# Altium schematic symbol library Guitar_Multi_Effect_lib.SchLib: 37 symbols
Pins are listed as number, name and electrical type; pins without a type are passive.

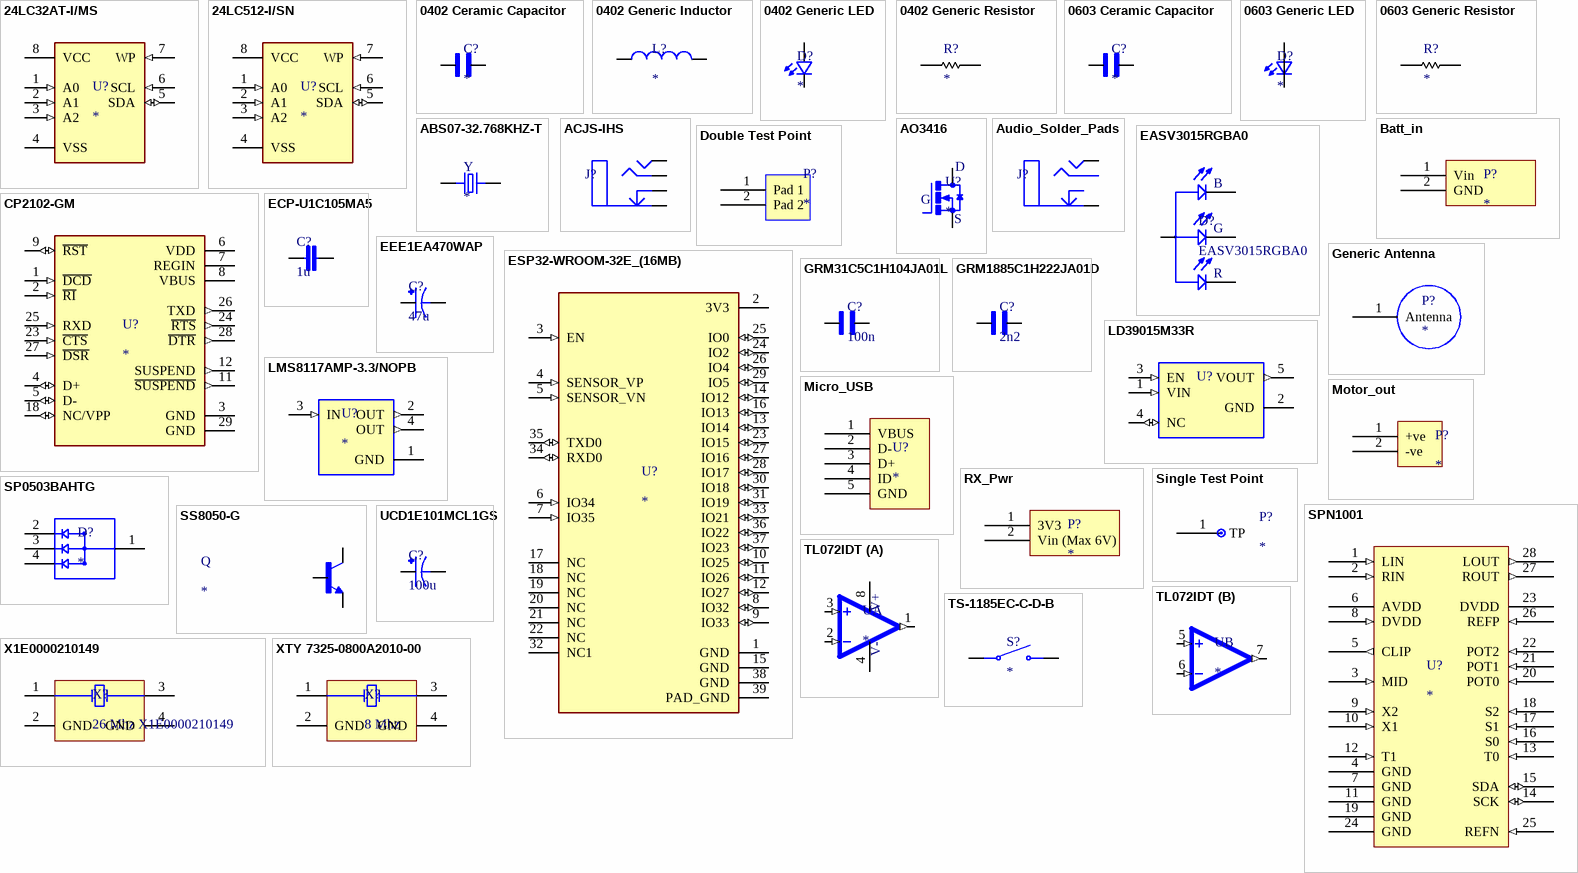
[diagram p0: symbols 24LC32AT-I/MS to XTY 7325-0800A2010-00]

## 24LC32AT-I/MS
designator U?
32K I2C Serial EEPROM
footprint 24LC32AT-I/MS
pins: 1 A0 (in), 2 A1 (in), 3 A2 (in), 4 VSS, 5 SDA (io), 6 SCL (in), 7 WP (in), 8 VCC (power)

## 24LC512-I/SN
designator U?
512K I2C Serial EEPROM
footprint 24LC512-I/SN
pins: 1 A0 (in), 2 A1 (in), 3 A2 (in), 4 VSS, 5 SDA (io), 6 SCL (in), 7 WP (in), 8 VCC (power)

## 0402 Ceramic Capacitor
designator C?
Generic 0402 Ceramic Capacitor; MP: AC0402FR-071ML; MF: Yageo; Package: 1005 Yageo; SnapEDA_Link: https://www.snapeda.com/parts/AC0402FR-071ML/Yageo/view-part/940461/?ref=snap; Value: *; Mouser-Purchase-URL: https://snapeda.com/shop?store=Mouser&id=940461; DigiKey-Purchase-URL: https://snapeda.com/shop?store=DigiKey&id=940461
footprint 0402 Capacitor Generic
pins: 1, 2

## 0402 Generic Inductor
designator L?
0402 Generic Inductor; Value: *
footprint 0402 Inductor Generic
pins: 1, 2

## 0402 Generic LED
designator D?
0402 Generic LED; Value: *
footprint 0402 LED Generic
pins: 1 K2, 2 A2

## 0402 Generic Resistor
designator R?
Generic 0402 Resistor
footprint 0402 Resistor Generic
pins: 1, 2

## 0603 Ceramic Capacitor
designator C?
Generic 0603 Ceramic Capacitor; MP: AC0402FR-071ML; MF: Yageo; Package: 1005 Yageo; SnapEDA_Link: https://www.snapeda.com/parts/AC0402FR-071ML/Yageo/view-part/940461/?ref=snap; Value: *; Mouser-Purchase-URL: https://snapeda.com/shop?store=Mouser&id=940461; DigiKey-Purchase-URL: https://snapeda.com/shop?store=DigiKey&id=940461
footprint CHIP_0603 (Chip Capacitor, 2-Leads, Body 1.60x0.80mm, IPC Medium Density)
pins: 1, 2

## 0603 Generic LED
designator D?
0603 Generic LED; Value: *
footprint 0603 LED Generic
pins: 1 K2, 2 A2

## 0603 Generic Resistor
designator R?
Generic 0603 Resistor
footprint CHIP_R_0603 (Chip Resistor, 2-Leads, Body 1.60x0.80mm, IPC Medium Density)
pins: 1, 2

## ABS07-32.768KHZ-T
designator Y
32.768kHz Â±20ppm Crystal 12.5pF 70 kOhms 2-SMD, No Lead; MF: Abracon LLC; MP: ABS07-32.768KHZ; Price: None; Value: *; Package: SMD-2 Abracon; Availability: Unavailable; SnapEDA_Link: https://www.snapeda.com/parts/ABS07-32.768KHZ/Abracon%20LLC/view-part/448682/?ref=snap
footprint XTAL_ABS07-32.768KHZ-T
pins: 1, 2

## ACJS-IHS
designator J?
6.35mm stereo insulated socket jack PCB mounted; Price: 0.5
footprint ACJS-IHS
pins: R, S, SN, T

## AO3416
designator U?
N-Channel 20V 6.5A _Ta_ 1.4W _Ta_ Surface Mount SOT-23-3L; MF: Alpha &; MP: AO3416; Digi-Key_Part_Number: 785-1011-1-ND; Package: SOT-23 Alpha &amp; Omega Semiconductor; Value: *; SnapEDA_Link: https://www.snapeda.com/parts/AO3416/Alpha%20%26%20Omega%20Semiconductor%20Inc./view-part/555673/?ref=snap; Digi-Key_Purchase_URL: https://www.digikey.com/product-detail/en/alpha-omega-semiconductor-inc/AO3416/785-1011-1-ND/1855953?utm_source=snapeda&utm_medium=aggregator&utm_campaign=symbol
footprint SOT23-3
pins: 1 G, 2 S, 3 D

## Audio_Solder_Pads
designator J?
Sodler pads for audio jacks; Price: 0.5
footprint 2 Test Points
pins: 1, 2

## Batt_in
designator P?
footprint 2 Solder Pads
pins: 1 Vin, 2 GND

## CP2102-GM
designator U?
USB Bridge, USB to UART USB 2.0 UART Interface 28-QFN _5x5_; MF: Silicon Labs; MP: CP2102-GM; Package: QFN-28 Silicon Labs; Value: *; Price: None; Availability: Unavailable; SnapEDA_Link: https://www.snapeda.com/parts/CP2102-GM/Silicon%20Labs/view-part/135876/?ref=snap
footprint QFN50P500X500X100-29N
pins: 1 ~{DCD} (in), 2 ~{RI} (in), 3 GND (power), 4 D+ (io), 5 D- (io), 6 VDD (power), 7 REGIN (power), 8 VBUS (power), 9 ~{RST} (io), 11 ~{SUSPEND} (out), 12 SUSPEND (out), 18 NC/VPP (io), 23 ~{CTS} (in), 24 ~{RTS} (out), 25 RXD (in), 26 TXD (out), 27 ~{DSR} (in), 28 ~{DTR} (out), 29 GND (power)

## Double Test Point
designator P?
footprint 2 Test Points
pins: 1 Pad 1, 2 Pad 2

## EASV3015RGBA0
designator D?
Red, Green, Blue _RGB_ 624nm Red, 525nm Green, 470nm Blue LED Indication - Discrete 2V Red, 3.3V Green, 3.3V Blue 4-SMD, No Lead; MF: Everlight Electronics; SnapEDA_Link: https://www.snapeda.com/parts/EASV3015RGBA0/Everlight%20Electronics%20Co%20Ltd/view-part/1921996/?ref=snap; Value: *; Price: None; Availability: Unavailable; MP: EASV3015RGBA0; Package: SMD-4 Everlight Electronics
footprint LED_EASV3015RGBA0
pins: 1, 2, 3, 4
text: B; G; R

## ECP-U1C105MA5
designator C?, comment 1u
CAP FILM 1UF 16V 20%; Manufacturer: Panasonic; Manufacturer Part Number: ECP-U1C105MA5; Dielectric: PPS; Dissipation Factor: 1.5%; Insulation Resistance: 300MR; Supplier 1: Farnell; Supplier Part Number 1: 9694315; RoHS: Yes; Category: Film Capacitors; Stock: 7744; Pricing: 5=0.65900, 50=0.39900, 250=0.33300, 500=0.27300, 1000=0.26400 (EUR); Mount: Surface Mount; Case/Package: 1210; Number of Pins: 2; Case Code (Metric): 3225; Contact Plating: Copper,Tin,Silver; Case Code (Imperial): 1210; Min Operating Temperature: -40°C; Max Operating Temperature: 85°C; Capacitance: 1uF; Tolerance: 20%; Termination: SMD/SMT; Voltage: 16V; Packaging: Tape and Reel; Package Quantity: 1; Voltage Rating: 16V; Voltage Rating (DC): 16V; Length: 3.2mm; Height: 1.4mm; Depth: 2.5mm; Height - Seated (Max): 0.063inch; Width: 2.5mm; Radiation Hardening: No; Lead Free: Lead Free; REACH SVHC: No SVHC; ComponentLink1URL: https://datasheet.ciiva.com/24023/abd0000ce12-181823-24023616.pdf?src-supplier=Mouser; ComponentLink1Description: https://datasheet.ciiva.com/24023/abd0000ce12-181823-24023616.pdf?src-supplier=Mouser; ComponentLink2URL: https://datasheet.ciiva.com/34303/1983192-34303533.pdf?src-supplier=Jameco; ComponentLink2Description: https://datasheet.ciiva.com/34303/1983192-34303533.pdf?src-supplier=Jameco; ComponentLink3URL: https://datasheet.ciiva.com/11790/0900766b80f2ea72-11790686.pdf?src-supplier=RSComponents; ComponentLink3Description: https://datasheet.ciiva.com/11790/0900766b80f2ea72-11790686.pdf?src-supplier=RSComponents; ComponentLink4URL: https://datasheet.ciiva.com/2992/abd0000ce12-2992994.pdf?src-supplier=Avnet; ComponentLink4Description: https://datasheet.ciiva.com/2992/abd0000ce12-2992994.pdf?src-supplier=Avnet; ComponentLink5URL: https://datasheet.ciiva.com/2992/abd0000ce12-2992995.pdf?src-supplier=Avnet; ComponentLink5Description: https://datasheet.ciiva.com/2992/abd0000ce12-2992995.pdf?src-supplier=Avnet; ComponentLink6URL: https://datasheet.ciiva.com/46399/31740-46399788.pdf?src-supplier=Element14; ComponentLink6Description: https://datasheet.ciiva.com/46399/31740-46399788.pdf?src-supplier=Element14; ComponentLink7URL: https://datasheet.ciiva.com/16433/abd0000ce12-16433502.pdf?src-supplier=Future+Electronics; ComponentLink7Description: https://datasheet.ciiva.com/16433/abd0000ce12-16433502.pdf?src-supplier=Future+Electronics; ComponentLink8URL: https://datasheet.ciiva.com/5710/31740-5710134.pdf?src-supplier=Farnell; ComponentLink8Description: https://datasheet.ciiva.com/5710/31740-5710134.pdf?src-supplier=Farnell; ComponentLink9URL: https://datasheet.ciiva.com/30120/abd0000ce12-30120298.pdf?src-supplier=Onlinecomponents.com; ComponentLink9Description: https://datasheet.ciiva.com/30120/abd0000ce12-30120298.pdf?src-supplier=Onlinecomponents.com; ComponentLink10URL: https://datasheet.ciiva.com/46399/31740-46399787.pdf?src-supplier=Element14; ComponentLink10Description: https://datasheet.ciiva.com/46399/31740-46399787.pdf?src-supplier=Element14; ComponentLink11URL: https://datasheet.ciiva.com/15164/getdatasheetpartid-292104-15164029.pdf?src-supplier=Verical; ComponentLink11Description: https://datasheet.ciiva.com/15164/getdatasheetpartid-292104-15164029.pdf?src-supplier=Verical
footprint CHIP_1210 (Chip Capacitor, 2-Leads, Body 3.20x2.50mm, IPC Medium Density)
pins: 1, 2

## EEE1EA470WAP
designator C?, comment 47u
CAP ALUM 47UF 25V SMD; ComponentLink1URL: http://www.farnell.com/datasheets/2151198.pdf?src-supplier=Farnell; ComponentLink1Description: http://www.farnell.com/datasheets/2151198.pdf?src-supplier=Farnell; ComponentLink2URL: http://www.farnell.com/datasheets/2151198.pdf?src-supplier=Element14; ComponentLink2Description: http://www.farnell.com/datasheets/2151198.pdf?src-supplier=Element14
footprint EEE1EA470WAP (Aluminum Electrolytic Capacitor, Body 6.60x6.60x5.40mm, IPC Low Density)
pins: +, -

## ESP32-WROOM-32E_(16MB)
designator U?
Bluetooth, WiFi 802.11b/g/n, Bluetooth v4.2 +EDR, Class 1, 2 and 3 Transceiver Module 2.4GHz ~ 2.5GHz Integrated, Trace Surface Mount; MP: ESP32-WROOM-32E (16MB); MF: Espressif Systems; Value: *; SnapEDA_Link: https://www.snapeda.com/parts/ESP32-WROOM-32E%20(16MB)/Espressif%20Systems/view-part/4792564/?ref=snap; Check_prices: https://www.snapeda.com/parts/ESP32-WROOM-32E%20(16MB)/Espressif%20Systems/view-part/4792564/?ref=eda; Availability: Unavailable; Price: None; Package: None
footprint MODULE_ESP32-WROOM-32E
pins: 1 GND (power), 2 3V3 (power), 3 EN (in), 4 SENSOR_VP (in), 5 SENSOR_VN (in), 6 IO34 (in), 7 IO35 (in), 8 IO32 (io), 9 IO33 (io), 10 IO25 (io), 11 IO26 (io), 12 IO27 (io), 13 IO14 (io), 14 IO12 (io), 15 GND (power), 16 IO13 (io), 17 NC, 18 NC, 19 NC, 20 NC, 21 NC, 22 NC, 23 IO15 (io), 24 IO2 (io), 25 IO0 (io), 26 IO4 (io), 27 IO16 (io), 28 IO17 (io), 29 IO5 (io), 30 IO18 (io), 31 IO19 (io), 32 NC1, 33 IO21 (io), 34 RXD0 (io), 35 TXD0 (io), 36 IO22 (io), 37 IO23 (io), 38 GND (power), 39 PAD_GND (power)

## Generic Antenna
designator P?
footprint Antenna pad
pins: 1 Antenna

## GRM31C5C1H104JA01L
designator C?, comment 100n
50V 100nF C0G ±5% 1206 Multilayer Ceramic Capacitors
footprint CAPC3216X180N
pins: 1, 2

## GRM1885C1H222JA01D
designator C?, comment 2n2
2200PF 50V C0G/NP0 0603
footprint CHIP_0603 (Chip Capacitor, 2-Leads, Body 1.60x0.80mm, IPC Medium Density)
pins: 1, 2

## LD39015M33R
designator U?
Fixed 3.3V LDO 150mA SOT-23-5 Linear Voltage Regulator
footprint SOT-23
pins: 1 VIN (in), 2 GND (power), 3 EN (in), 4 NC (io), 5 VOUT (out)

## LMS8117AMP-3.3/NOPB
designator U?
Fixed 3.3V LDO 1A 15V input SOT-223; MF: Texas Instruments; MP: LMS8117AMP-3.3/NOPB; SnapEDA_Link: https://www.snapeda.com/parts/LMS8117AMP-3.3/NOPB/Texas%20Instruments/view-part/104396/?ref=snap; Price: None; Check_prices: https://www.snapeda.com/parts/LMS8117AMP-3.3/NOPB/Texas%20Instruments/view-part/104396/?ref=eda; Purchase-URL: https://pricing.snapeda.com/search/part/LMS8117AMP-3.3/NOPB/?ref=eda; Value: *; Package: SOT-223-4 Texas Instruments; Availability: Warning
footprint SOT230P700X180-4N
pins: 1 GND (power), 2 OUT (out), 3 IN (in), 4 OUT (out)

## Micro_USB
designator U?
XKB Connectivity U254-051T-4BH83-F1S
footprint U254-051T-4BH83-F1S
pins: 1 VBUS, 2 D-, 3 D+, 4 ID, 5 GND

## Motor_out
designator P?
footprint Motor_Out
pins: 1 +ve, 2 -ve

## RX_Pwr
designator P?
footprint 2 Solder Pads
pins: 1 3V3, 2 Vin (Max 6V)

## Single Test Point
designator P?
footprint 1 Solder Pad
pins: 1 TP

## SP0503BAHTG
designator D?
8.5V Clamp Ipp Tvs Diode Surface Mount SOT-143-4; MP: SP0503BAHTG; MF: Littelfuse Inc.; Package: SOT-143 Littelfuse; SnapEDA_Link: https://www.snapeda.com/parts/SP0503BAHTG/Littelfuse%20Inc./view-part/214427/?ref=snap; Digi-Key_Purchase_URL: https://www.digikey.com/product-detail/en/littelfuse-inc/SP0503BAHTG/F2715CT-ND/1154322?utm_source=snapeda&utm_medium=aggregator&utm_campaign=symbol; Value: *; Digi-Key_Part_Number: F2715CT-ND
footprint SP0503BAHTG
pins: 1, 2, 3, 4

## SPN1001
designator U?
footprint SOIC-28
pins: 1 LIN (in) "Left analog in", 2 RIN (in) "Right analog in", 3 MID (in) "Mid reference", 4 GND (power) "Ground", 5 CLIP (out) "Clip LED output", 6 AVDD (power) "Analog power (3.3V)", 7 GND (power) "Ground", 8 DVDD (in) "Digital power (3.3V)", 9 X2 (in) "Crystal oscillator input", 10 X1 (in) "Crystal oscillator input", 11 GND (power) "Ground", 12 T1 (in) "Tie to GND for normal operation", 13 T0 (in) "0: Use internal ROM programs, 1: Use programs from external EEPROM", 14 SCK (io) "EEPROM clock (Internal pull up)", 15 SDA (io) "EEPROM data (Internal pull up)", 16 S0 (in) "Program select LSB", 17 S1 (in) "Program select", 18 S2 (in) "Program select MSB", 19 GND (power) "Ground", 20 POT0 (in) "Potentiometer 0 analog input", 21 POT1 (in) "Potentiometer 1 analog input", 22 POT2 (in) "Potentiometer 2 analog input", 23 DVDD (power) "Digital power (3.3V)", 24 GND (power) "Ground", 25 REFN (in) "Negative Reference", 26 REFP (in) "Positive reference", 27 ROUT (out) "Right analog out", 28 LOUT (out) "Left analog out"

## SS8050-G
designator Q
NPN TRANSISTOR 1.5A 40V SOT-23 R
footprint SS8050-G
pins: 1 B, 2 E, 3 C

## TL072IDT
designator U
J-FET Amplifier 2 Circuit 8-SO; MF: STMicroelectronics; MP: TL072IDT; Availability: Unavailable; Value: *; Price: None; SnapEDA_Link: https://www.snapeda.com/parts/TL072IDT/STMicroelectronics/view-part/265326/?ref=snap; Package: SOIC-8 STMicroelectronics
footprint TL072BIDT
part A pins: 1 OUT1 (out), 2 -IN1 (in), 3 +IN1 (in), 4 V- (power), 8 V+ (power)
part B pins: 5 +IN2 (in), 6 -IN2 (in), 7 OUT2 (out)

## TS-1185EC-C-D-B
designator S?
SMD Tactile Switche - 3mm 2mm 50mA 3.65mm SPST 12V
footprint TS-1185EC-C-D-B
pins: 1 COM, 2 COM, 3 NO, 4 NO

## UCD1E101MCL1GS
designator C?, comment 100u
CAP ALUM 100UF 25V SMD; ComponentLink1URL: http://www.farnell.com/datasheets/2151198.pdf?src-supplier=Element14; ComponentLink1Description: http://www.farnell.com/datasheets/2151198.pdf?src-supplier=Element14
footprint UCD1E101MCL1GS (Aluminum Electrolytic Capacitor, Body 6.60x6.60x5.40mm, IPC Low Density)
pins: +, -

## X1E0000210149
designator X?, comment 26 Mhz X1E0000210149
26MHz ±10ppm 12pF 40Ω TSX-3225; Manufacturer: Epson; ESR (Equivalent Series Resistance): 40R; Supplier 1: Digi-Key; RoHS: Yes; Category: Crystals; Pricing 1: 2000=0.17600 (USD); Mount: Surface Mount; Case/Package: SMD/SMT; Min Operating Temperature: -20°C; Max Operating Temperature: 75°C; Packaging: Tape and Reel; Frequency: 26MHz; Load Capacitance: 12pF; Frequency Stability: 10ppm; Frequency Tolerance: 10ppm; Length: 0.126inch; Height: 0.024inch; Width: 0.098inch; ComponentLink1URL: https://support.epson.biz/td/api/doc_check.php?dl=brief_FA-238V_en.pdf&src-supplier=Digi-Key; ComponentLink1Description: https://support.epson.biz/td/api/doc_check.php?dl=brief_FA-238V_en.pdf&src-supplier=Digi-Key
footprint TSX-3225 (SMD, 4-Leads, Body 3.2x2.5mm)
pins: 1 X1, 2 GND (power), 3 X2, 4 GND (power)

## XTY 7325-0800A2010-00
designator X?, comment 8 Mhz
8MHz ±10ppm 20pF 400Ω; ComponentLink1URL: https://support.epson.biz/td/api/doc_check.php?dl=brief_FA-238V_en.pdf&src-supplier=Digi-Key; ComponentLink1Description: https://support.epson.biz/td/api/doc_check.php?dl=brief_FA-238V_en.pdf&src-supplier=Digi-Key
footprint TSX-3225 (SMD, 4-Leads, Body 3.2x2.5mm)
pins: 1 X1, 2 GND (power), 3 X2, 4 GND (power)